# EAGLE library part LM3S811EVAL (library Mine)
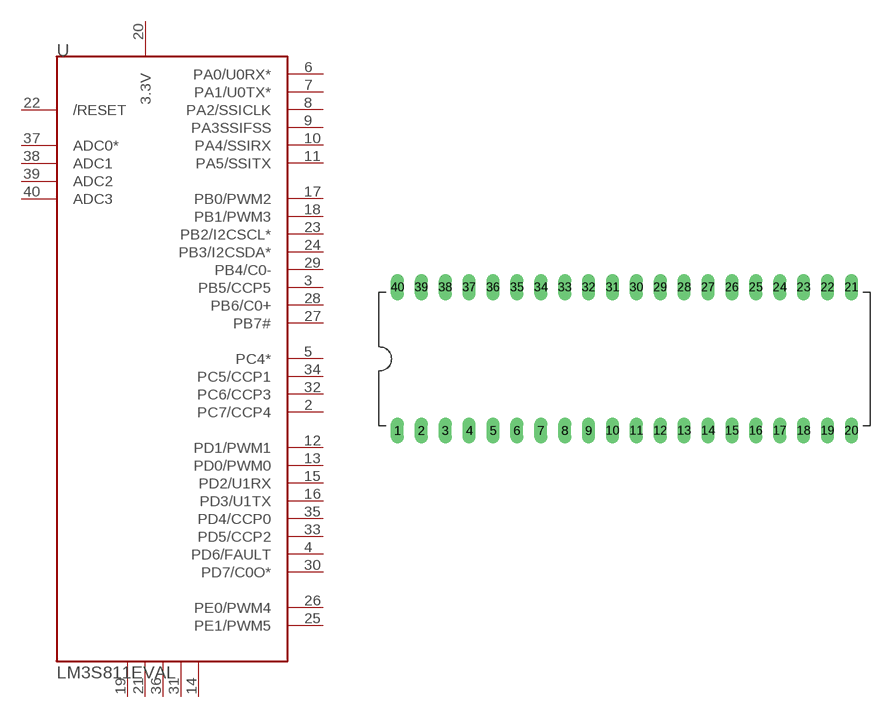
[diagram p27: symbol with the pads of DIL40; footprint DIL40]

Designator prefix -

## LM3S811EVAL  [DIL40]
2  PC7/CCP4
3  PB5/CCP5
4  PD6/FAULT
5  PC4*
6  PA0/U0RX*
7  PA1/U0TX*
8  PA2/SSICLK
9  PA3SSIFSS
10  PA4/SSIRX
11  PA5/SSITX
12  PD1/PWM1
13  PD0/PWM0
14  GND1  pwr
15  PD2/U1RX
16  PD3/U1TX
17  PB0/PWM2
18  PB1/PWM3
19  GND2  pwr
20  3.3V  pwr
21  GND3  pwr
22  /RESET
23  PB2/I2CSCL*
24  PB3/I2CSDA*
25  PE1/PWM5
26  PE0/PWM4
27  PB7#
28  PB6/C0+
29  PB4/C0-
30  PD7/C0O*
31  GND5  pwr
32  PC6/CCP3
33  PD5/CCP2
34  PC5/CCP1
35  PD4/CCP0
36  GND4  pwr
37  ADC0*
38  ADC1
39  ADC2
40  ADC3

## Footprint DIL40 (pad centres in mm)
drill 0.9 long: 1 -21.59,-8.89; 2 -19.05,-8.89; 3 -16.51,-8.89; 4 -13.97,-8.89; 5 -11.43,-8.89; 6 -8.89,-8.89; 7 -6.35,-8.89; 8 -3.81,-8.89; 9 -1.27,-8.89; 10 1.27,-8.89; 11 3.81,-8.89; 12 6.35,-8.89; 13 8.89,-8.89; 14 11.43,-8.89; 15 13.97,-8.89; 16 16.51,-8.89; 17 19.05,-8.89; 18 21.59,-8.89; 19 24.13,-8.89; 20 26.67,-8.89; 21 26.67,6.35; 22 24.13,6.35; 23 21.59,6.35; 24 19.05,6.35; 25 16.51,6.35; 26 13.97,6.35; 27 11.43,6.35; 28 8.89,6.35; 29 6.35,6.35; 30 3.81,6.35; 31 1.27,6.35; 32 -1.27,6.35; 33 -3.81,6.35; 34 -6.35,6.35; 35 -8.89,6.35; 36 -11.43,6.35; 37 -13.97,6.35; 38 -16.51,6.35; 39 -19.05,6.35; 40 -21.59,6.35